# EAGLE library part LM2674 (library Eagle-JeeLabs)
0.5A Step-Down Voltage Regulator
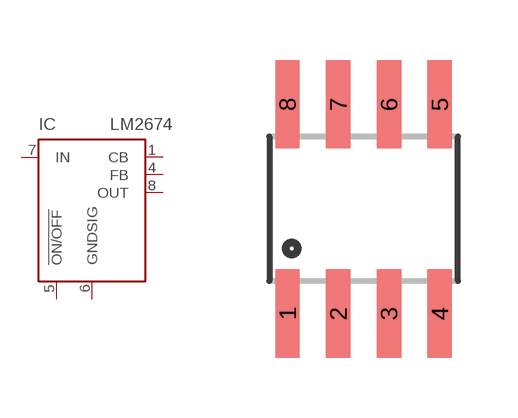
[diagram p12: symbol with the pads of SO08; footprint SO08]

Designator prefix IC

## LM2674  [SO08]
1  CB  in
4  FB  in
5  !ON/OFF  in
6  GNDSIG  in
7  IN  in
8  OUT  pas

## Footprint SO08 (pad centres in mm)
Small Outline Package Fits JEDEC packages (narrow SOIC-8)
smd 0.61 x 2.21: 1 -1.905,-2.616; 2 -0.635,-2.616; 3 0.635,-2.616; 4 1.905,-2.616; 5 1.905,2.616; 6 0.635,2.616; 7 -0.635,2.616; 8 -1.905,2.616